# Altium footprint library con-subd.PCBLIB: 94 footprints (part 5 of 6)
Each footprint in its own frame and in the unit in brackets; x right, y up, seen from the top. Pads: shape width x height; smd on the part's side, far side on the other; paste and mask are expansions set on the pad; w line width, h text height; cw(c..) or ccw(c..) is an arc to the next point about the centre after c.
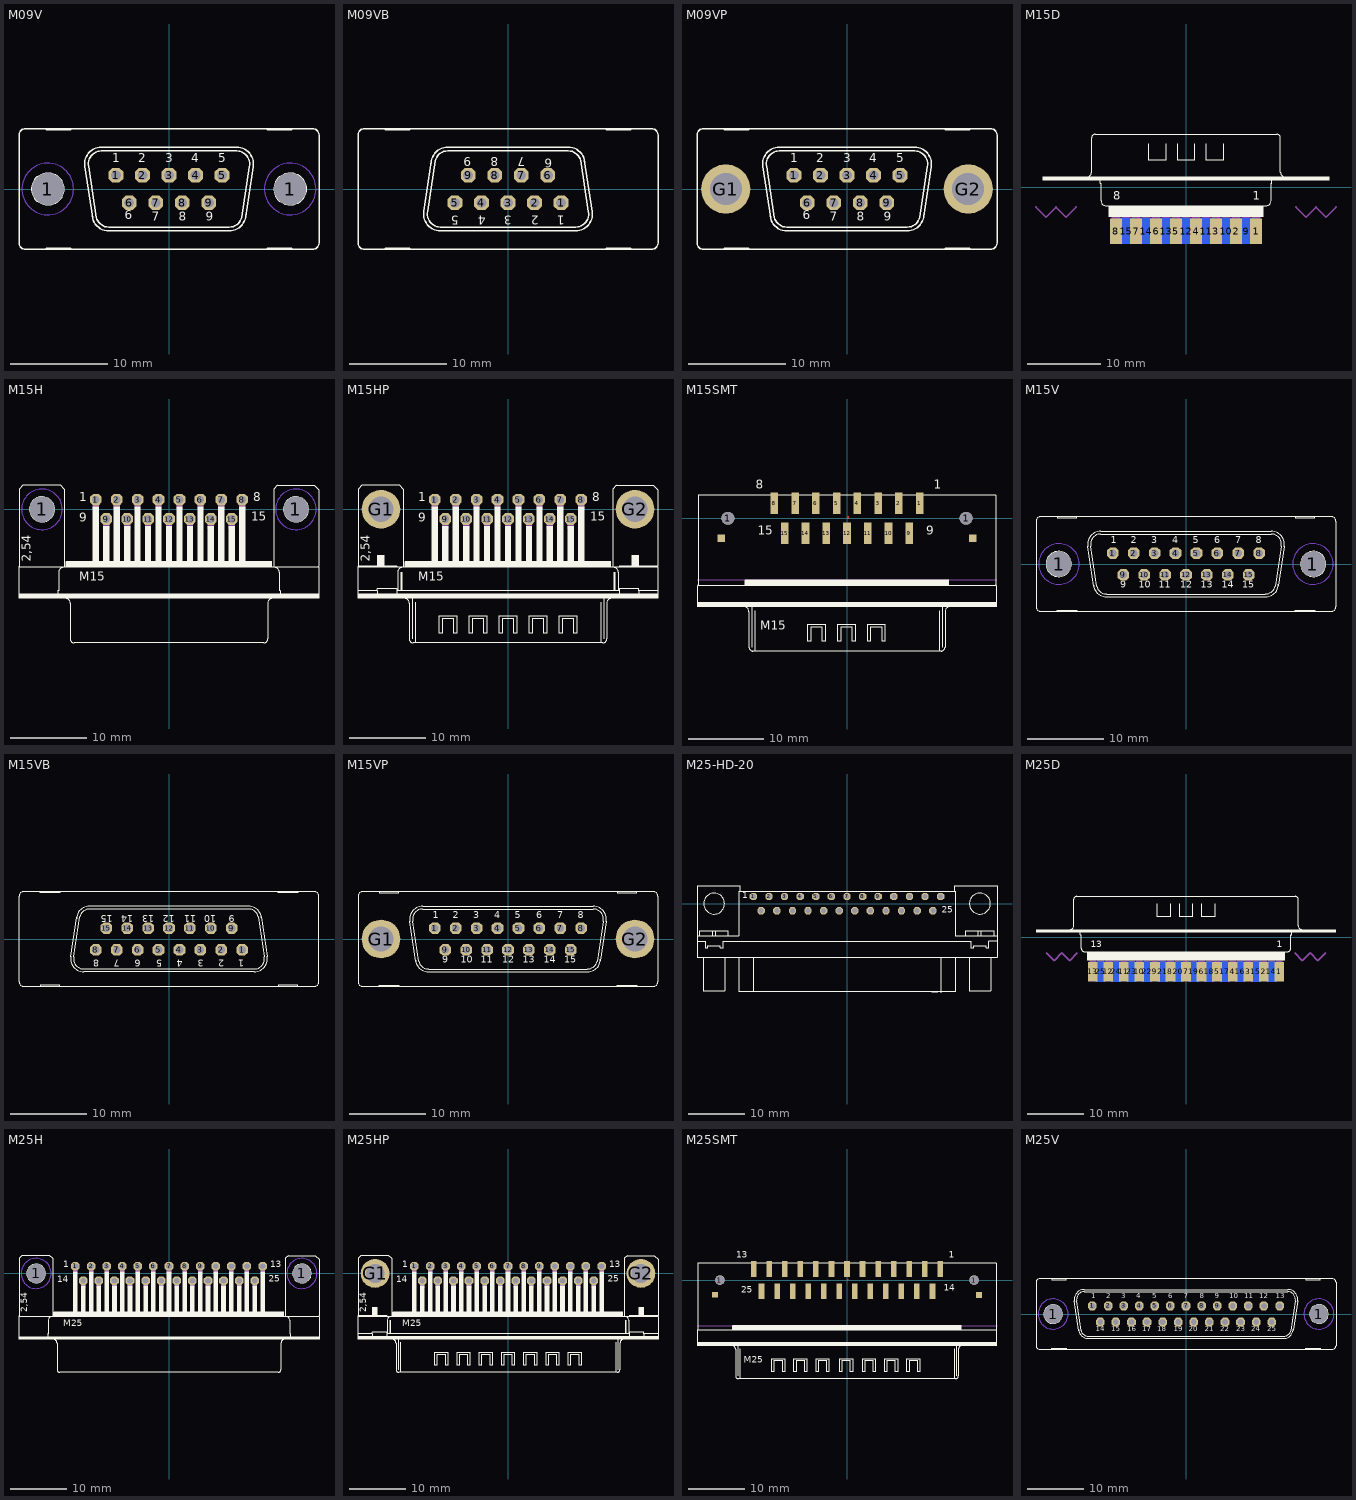
[diagram p4: the footprints below, top view; thin cyan lines are the x and y axes]

## M09V [mil]
pads (11):
  round 130 hole 130: 1(-493,0) 1(493,0)
  oct 60x60 hole 40: 1(-216,56) 2(-108,56) 3(0,56) 4(108,56) 5(216,56) 6(-162,-56) 7(-54,-56) 8(54,-56) 9(162,-56)
Bottom Layer keep-out:
  circle w0: c-493,0 r105
  circle w0: c493,0 r105
Top Overlay:
  circle w6: c-493,0 r65
  circle w6: c493,0 r65
  lines w6: -342,92 -311,-116 ; -341.68,88.67 cw(c-275,102) -275,170 275,170 cw(c275,101.99) 341.69,88.67 ; -327,92 -296,-116 ; -326.97,91.61 cw(c-275,102) -275,155 275,155 cw(c275,101.99) 326.79,90.7 ; -312.4,-110.99 ccw(c-245,-102) -245,-170 245,-170 ccw(c244.99,-102) 312.89,-105.7 ; -296.3,-115.33 ccw(c-245,-101.99) -245,-155 245,-155 ccw(c244.99,-102) 296.52,-114.37 ; 296,-115 327,91 ; 312,-113 342,91 ; -500,-245 -500,-240 -400,-240 -400,-245 ; -500,-245 -400,-245 ; -500,-245 -585,-245 cw(c-585,-220) -610,-220 -610,220 cw(c-585,220) -585,245 -500,245 ; -500,245 -500,240 -400,240 -400,245 ; -500,245 -400,245 ; -400,-245 400,-245 ; -400,245 400,245 ; 400,-245 400,-240 500,-240 500,-245 ; 400,-245 500,-245 ; 400,245 400,240 500,240 500,245 ; 400,245 500,245 ; 500,-245 585,-245 ccw(c585,-220) 610,-220 610,220 ccw(c585,220) 585,245 500,245
  text "3" at -15,96 h60.45
  text "1" at -230,96 h60.45
  text "2" at -125,96 h60.45
  text "4" at 90,96 h60.45
  text "5" at 200,96 h60.45
  text "6" at -180,-136 h60.45
  text "7" at -70,-141 h60.45
  text "8" at 40,-141 h60.45
  text "9" at 150,-141 h60.45
Mechanical 16:
  circle w16: c0,56 r10
  circle w16: c54,-56 r10
  circle w16: c108,56 r10
  circle w16: c162,-56 r10
  circle w16: c216,56 r10
  circle w16: c-54,-56 r10
  circle w16: c-108,56 r10
  circle w16: c-162,-56 r10
  circle w16: c-216,56 r10
Via Holes:
  circle w0: c-493,0 r105
  circle w0: c493,0 r105

## M09VB [mil]
pads (9):
  oct 60x60 hole 40: 1(216,-56) 2(108,-56) 3(0,-56) 4(-108,-56) 5(-216,-56) 6(162,56) 7(54,56) 8(-54,56) 9(-162,56)
Top Overlay:
  lines w6: -342,-91 -312,113 ; -341.69,-88.67 ccw(c-275,-101.99) -275,-170 275,-170 ccw(c275,-102) 341.68,-88.67 ; -327,-91 -296,115 ; -326.79,-90.7 ccw(c-275,-101.99) -275,-155 275,-155 ccw(c275,-102) 326.97,-91.61 ; -312.89,105.7 cw(c-244.99,102) -245,170 245,170 cw(c245,102) 312.4,110.99 ; -296.52,114.37 cw(c-244.99,102) -245,155 245,155 cw(c245,101.99) 296.3,115.33 ; 296,116 327,-92 ; 311,116 342,-92 ; -500,-245 -585,-245 cw(c-585,-220) -610,-220 -610,220 cw(c-585,220) -585,245 -500,245 ; -500,-245 -500,-240 -400,-240 -400,-245 ; -500,-245 -400,-245 ; -500,245 -400,245 ; -500,245 -500,240 -400,240 -400,245 ; -400,-245 400,-245 ; -400,245 400,245 ; 400,-245 400,-240 500,-240 500,-245 ; 400,-245 500,-245 ; 400,245 500,245 ; 400,245 400,240 500,240 500,245 ; 500,-245 585,-245 ccw(c585,-220) 610,-220 610,220 ccw(c585,220) 585,245 500,245
  text "3" at 15,-96 h60.45
  text "1" at 230,-96 h60.45
  text "2" at 125,-96 h60.45
  text "4" at -90,-96 h60.45
  text "5" at -200,-96 h60.45
  text "6" at 180,136 h60.45
  text "7" at 70,141 h60.45
  text "8" at -40,141 h60.45
  text "9" at -150,141 h60.45
Mechanical 16:
  circle w16: c0,-56 r10
  circle w16: c-54,56 r10
  circle w16: c-108,-56 r10
  circle w16: c-162,56 r10
  circle w16: c-216,-56 r10
  circle w16: c54,56 r10
  circle w16: c108,-56 r10
  circle w16: c162,56 r10
  circle w16: c216,-56 r10

## M09VP [mil]
pads (11):
  oct 60x60 hole 40: 1(-216,56) 2(-108,56) 3(0,56) 4(108,56) 5(216,56) 6(-162,-56) 7(-54,-56) 8(54,-56) 9(162,-56)
  round 200 hole 130: G1(-493,0) G2(493,0)
Top Overlay:
  circle w6: c-493,0 r65
  circle w6: c493,0 r65
  lines w6: -342,92 -311,-116 ; -341.68,88.67 cw(c-275,102) -275,170 275,170 cw(c275,101.99) 341.69,88.67 ; -327,92 -296,-116 ; -326.97,91.61 cw(c-275,102) -275,155 275,155 cw(c275,101.99) 326.79,90.7 ; -312.4,-110.99 ccw(c-245,-102) -245,-170 245,-170 ccw(c244.99,-102) 312.89,-105.7 ; -296.3,-115.33 ccw(c-245,-101.99) -245,-155 245,-155 ccw(c244.99,-102) 296.52,-114.37 ; 296,-115 327,91 ; 312,-113 342,91 ; -500,-245 -500,-240 -400,-240 -400,-245 ; -500,-245 -400,-245 ; -500,-245 -585,-245 cw(c-585,-220) -610,-220 -610,220 cw(c-585,220) -585,245 -500,245 ; -500,245 -500,240 -400,240 -400,245 ; -500,245 -400,245 ; -400,-245 400,-245 ; -400,245 400,245 ; 400,-245 400,-240 500,-240 500,-245 ; 400,-245 500,-245 ; 400,245 400,240 500,240 500,245 ; 400,245 500,245 ; 500,-245 585,-245 ccw(c585,-220) 610,-220 610,220 ccw(c585,220) 585,245 500,245
  text "3" at -15,96 h60.45
  text "1" at -230,96 h60.45
  text "2" at -125,96 h60.45
  text "4" at 90,96 h60.45
  text "5" at 200,96 h60.45
  text "6" at -180,-136 h60.45
  text "7" at -70,-141 h60.45
  text "8" at 40,-141 h60.45
  text "9" at 150,-141 h60.45
Mechanical 16:
  circle w16: c0,56 r10
  circle w16: c54,-56 r10
  circle w16: c108,56 r10
  circle w16: c162,-56 r10
  circle w16: c216,56 r10
  circle w16: c-54,-56 r10
  circle w16: c-108,56 r10
  circle w16: c-162,-56 r10
  circle w16: c-216,56 r10

## M15D [mil]
pads (15):
  rect 66.93x137.8 smd: 1(378.01,-237.98) 2(270,-237.99) 3(161.99,-237.98) 4(54.01,-237.98) 5(-54.01,-237.98) 6(-161.99,-237.98) 7(-270,-237.99) 8(-378.01,-237.98)
  rect 66.93x137.8 smd far side: 9(324,-238) 10(216,-238) 11(108,-238) 12(0,-238) 13(-108,-238) 14(-216,-238) 15(-324,-238)
Top Overlay:
  rectangle: -775,35.56 775,55.56
  rectangle: -417.32,-161.42 417.32,-98.43
  lines w6: -535,55.55 ccw(c-535,80.55) -510,80.55 -510,265.55 cw(c-490,265.55) -490,285.55 490,285.55 cw(c490,265.55) 510,265.55 510,80.55 ccw(c535,80.55) 535,55.55 ; -464,40 -464,20 -459,20 -459,-75 ccw(c-434,-75) -434,-100 ; -434.76,-100 434.76,-100 ; -200,234.45 -200,144.45 -110,144.45 -110,234.45 ; -45,234.45 -45,144.45 45,144.45 45,234.45 ; 110,234.45 110,144.45 200,144.45 200,234.45 ; 434,-100 ccw(c434,-75) 459,-75 459,20 464,20 464,40
  text "1" at 360.93,-85.77 h77.5
  text "8" at -393.8,-85.77 h77.5
Bottom Overlay:
  text "9" at 345.18,-32.48 h77.5
  text "15" at -307.19,-32.48 h77.5
Mechanical 13:
  lines w10: -810,-108 -756,-162 -702,-108 -648,-162 -594,-108 ; 594,-108 648,-162 702,-108 756,-162 810,-108
  text "Board" at 612,-100 h77.5
  text "Board" at -812,-100 h77.5
Mechanical 16:
  rectangle: 354.38,-258.27 401.62,-159.84
  rectangle: 246.38,-258.27 293.62,-159.84
  rectangle: 138.38,-258.27 185.62,-159.84
  rectangle: 30.38,-258.27 77.62,-159.84
  rectangle: -77.62,-258.27 -30.38,-159.84
  rectangle: -185.62,-258.27 -138.38,-159.84
  rectangle: -293.62,-258.27 -246.38,-159.84
  rectangle: -401.62,-258.27 -354.38,-159.84
  text "M15D" at -408,181 h77.5
Mechanical 30:
  rectangle: 300.38,-258.27 347.62,-159.84
  rectangle: 192.38,-258.27 239.62,-159.84
  rectangle: 84.38,-258.27 131.62,-159.84
  rectangle: -23.62,-258.27 23.62,-159.84
  rectangle: -131.62,-258.27 -84.38,-159.84
  rectangle: -239.62,-258.27 -192.38,-159.84
  rectangle: -347.62,-258.27 -300.38,-159.84

## M15H [mil]
pads (17):
  round 130 hole 130: 1(-656,0) 1(656,0)
  oct 60x60 hole 40: 1(-378,50) 2(-270,50) 3(-162,50) 4(-54,50) 5(54,50) 6(162,50) 7(270,50) 8(378,50) 9(-324,-50) 10(-216,-50) 11(-108,-50) 12(0,-50) 13(108,-50) 14(216,-50) 15(324,-50)
Bottom Layer keep-out:
  circle w0: c656,0 r105
  circle w0: c-656,0 r105
Top Overlay:
  circle w6: c656,0 r65
  circle w6: c-656,0 r65
  rectangle: -775,-460 775,-440
  rectangle: -530,-300 530,-270
  rectangle: -394,-270 -362,15
  rectangle: -340,-270 -308,-85
  rectangle: -286,-270 -254,15
  rectangle: -232,-270 -200,-85
  rectangle: -178,-270 -146,15
  rectangle: -124,-270 -92,-85
  rectangle: -70,-270 -38,15
  rectangle: -16,-270 16,-85
  rectangle: 38,-270 70,15
  rectangle: 92,-270 124,-85
  rectangle: 146,-270 178,15
  rectangle: 200,-270 232,-85
  rectangle: 254,-270 286,15
  rectangle: 308,-270 340,-85
  rectangle: 362,-270 394,15
  lines w6: -545,-300 ccw(c-545,-325) -570,-325 -570,-420 -575,-420 -575,-440 ; -535,-460 cw(c-535,-485) -510,-485 -510,-670 ccw(c-490,-670) -490,-690 -480,-690 480,-690 490,-690 ccw(c490,-670) 510,-670 510,-485 cw(c535,-485) 535,-460 ; 545,-300 cw(c545,-325) 570,-325 570,-420 575,-420 575,-440 ; -775,-440 -775,-460 -495,-460 495,-460 775,-460 775,-440 ; -775,-440 -775,-420 -775,-300 ; -775,-440 -675,-440 -575,-440 ; -775,-300 -775,-295 -775,105 -755,125 -560,125 -540,105 -540,-300 ; -775,-300 -575,-300 -540,-300 ; -575,-440 575,-440 ; -540,-300 -530,-300 ; -530,-300 530,-300 ; -530,-300 -530,-270 530,-270 530,-300 ; 530,-300 540,-300 ; 540,-300 575,-300 775,-300 ; 540,-300 540,105 560,125 750,125 775,100 775,-295 775,-300 ; 575,-440 675,-440 775,-440 ; 775,-440 775,-420 775,-300
  text "1" at -465,25 h77.5
  text "8" at 435,25 h77.5
  text "9" at -465,-80 h77.5
  text "15" at 425,-75 h77.5
  text "2,54" at -700,-270 h77.5
  text "M15" at -465,-385 h77.5
Mechanical 16:
  lines w32: -378,5 -378,45 ; -324,-95 -324,-55 ; -270,5 -270,45 ; -216,-95 -216,-55 ; -162,5 -162,45 ; -108,-95 -108,-55 ; -54,5 -54,45 ; 0,-95 0,-55 ; 54,5 54,45 ; 108,-95 108,-55 ; 162,5 162,45 ; 216,-95 216,-55 ; 270,5 270,45 ; 324,-95 324,-55 ; 378,5 378,45
Via Holes:
  circle w0: c656,0 r105
  circle w0: c-656,0 r105

## M15HP [mil]
pads (17):
  oct 60x60 hole 40: 1(-378,50) 2(-270,50) 3(-162,50) 4(-54,50) 5(54,50) 6(162,50) 7(270,50) 8(378,50) 9(-324,-50) 10(-216,-50) 11(-108,-50) 12(0,-50) 13(108,-50) 14(216,-50) 15(324,-50)
  round 200 hole 130: G1(-656,0) G2(656,0)
Top Overlay:
  circle w6: c-656,0 r65
  circle w6: c656,0 r65
  rectangle: 545,-420 555,-325
  rectangle: -555,-420 -545,-325
  rectangle: 638,-300 678,-235
  rectangle: -678,-300 -638,-235
  rectangle: -775,-460 775,-440
  rectangle: -530,-300 530,-270
  rectangle: -394,-270 -362,15
  rectangle: -340,-270 -308,-85
  rectangle: -286,-270 -254,15
  rectangle: -232,-270 -200,-85
  rectangle: -178,-270 -146,15
  rectangle: -124,-270 -92,-85
  rectangle: -70,-270 -38,15
  rectangle: -16,-270 16,-85
  rectangle: 38,-270 70,15
  rectangle: 92,-270 124,-85
  rectangle: 146,-270 178,15
  rectangle: 200,-270 232,-85
  rectangle: 254,-270 286,15
  rectangle: 308,-270 340,-85
  rectangle: 362,-270 394,15
  lines w6: -545,-300 ccw(c-545,-325) -570,-325 -570,-420 ; -535,-460 cw(c-535,-485) -510,-485 -510,-670 ccw(c-490,-670) -490,-690 -480,-690 ; -495,-670 -495,-460 ; -480,-480 -480,-690 ; 480,-480 480,-690 ; 495,-670 495,-460 ; 535,-460 ccw(c535,-485) 510,-485 510,-670 cw(c490,-670) 490,-690 480,-690 ; 545,-300 cw(c545,-325) 570,-325 570,-420 ; -775,-440 -775,-460 -495,-460 ; -775,-440 -775,-420 ; -775,-440 -675,-440 ; -775,-420 -775,-300 ; -775,-420 -675,-420 ; -775,-300 -775,-295 ; -775,-300 -575,-300 ; -775,-295 -575,-295 -575,-300 ; -775,-295 -775,105 -755,125 -560,125 -540,105 -540,-300 ; -675,-440 -675,-420 ; -675,-440 -575,-440 ; -675,-420 -675,-410 -575,-410 -575,-420 ; -575,-440 575,-440 ; -575,-440 -575,-420 ; -575,-420 -570,-420 ; -575,-300 -540,-300 ; -570,-420 570,-420 ; -540,-300 -530,-300 ; -530,-300 530,-300 ; -530,-300 -530,-270 530,-270 530,-300 ; -495,-460 495,-460 ; -480,-690 480,-690 ; 495,-460 775,-460 775,-440 ; 530,-300 540,-300 ; 540,-300 575,-300 ; 540,-300 540,105 560,125 750,125 775,100 775,-295 ; 570,-420 575,-420 ; 575,-440 675,-440 ; 575,-440 575,-420 ; 575,-420 575,-410 675,-410 675,-420 ; 575,-300 775,-300 ; 575,-300 575,-295 775,-295 ; 675,-440 775,-440 ; 675,-440 675,-420 ; 675,-420 775,-420 ; 775,-440 775,-420 ; 775,-420 775,-300 ; 775,-300 775,-295 ; -355,-640 -340,-640 -340,-565 -280,-565 -280,-640 -265,-640 -265,-550 -355,-550 -355,-640 ; -200,-640 -185,-640 -185,-565 -125,-565 -125,-640 -110,-640 -110,-550 -200,-550 -200,-640 ; -45,-640 -30,-640 -30,-565 30,-565 30,-640 45,-640 45,-550 -45,-550 -45,-640 ; 110,-640 125,-640 125,-565 185,-565 185,-640 200,-640 200,-550 110,-550 110,-640 ; 265,-640 280,-640 280,-565 340,-565 340,-640 355,-640 355,-550 265,-550 265,-640
  text "1" at -465,25 h77.5
  text "8" at 435,25 h77.5
  text "9" at -465,-80 h77.5
  text "15" at 425,-75 h77.5
  text "2,54" at -700,-270 h77.5
  text "M15" at -465,-385 h77.5
Mechanical 16:
  lines w32: -378,5 -378,45 ; -324,-95 -324,-55 ; -270,5 -270,45 ; -216,-95 -216,-55 ; -162,5 -162,45 ; -108,-95 -108,-55 ; -54,5 -54,45 ; 0,-95 0,-55 ; 54,5 54,45 ; 108,-95 108,-55 ; 162,5 162,45 ; 216,-95 216,-55 ; 270,5 270,45 ; 324,-95 324,-55 ; 378,5 378,45

## M15SMT [mm]
pads (19):
  round 1.7 hole 1.7: 1(-15.72,0) 1(15.72,0)
  rect 1x2.8 smd: 1(9.59,1.975) 2(6.85,1.975) 3(4.11,1.975) 4(1.37,1.975) 5(-1.37,1.975) 6(-4.11,1.975) 7(-6.85,1.975) 8(-9.59,1.975) 9(8.22,-1.975) 10(5.48,-1.975) 11(2.74,-1.975) 12(0,-1.975) 13(-2.74,-1.975) 14(-5.48,-1.975) 15(-8.22,-1.975)
  rect 1x1 smd: S@1(16.595,-2.65) S@2(-16.595,-2.625)
Top Layer:
  region: 0,0 0.254,0 0.254,0.254 0,0.254
  region: 0,0 0.254,0 0.254,0.254 0,0.254
Top Overlay:
  rectangle: -13.45,-8.92 13.425,-8.158
  rectangle: -19.65,-11.684 19.675,-11.04
  lines w0.152: -13.572,-11.684 cw(c-13.572,-12.319) -12.937,-12.319 -12.937,-17.018 ccw(c-12.429,-17.018) -12.429,-17.526 -12.175,-17.526 ; -12.556,-17.018 -12.556,-11.684 ; -12.175,-12.192 -12.175,-17.526 ; 12.175,-12.192 12.175,-17.526 ; 12.556,-17.018 12.556,-11.684 ; 13.572,-11.684 ccw(c13.572,-12.319) 12.937,-12.319 12.937,-17.018 cw(c12.429,-17.018) 12.429,-17.526 12.175,-17.526 ; -19.668,-8.92 -19.668,-11.684 -12.556,-11.684 ; -19.668,-8.92 -19.62,-8.793 -19.62,3.016 19.62,3.016 19.62,-8.793 19.668,-8.92 ; -19.668,-8.92 -13.445,-8.92 ; -13.445,-8.92 13.445,-8.92 ; -13.445,-8.92 -13.445,-8.158 13.445,-8.158 13.445,-8.92 ; -12.556,-11.684 12.556,-11.684 ; -12.175,-17.526 12.175,-17.526 ; 12.556,-11.684 19.668,-11.684 19.668,-8.92 ; 13.445,-8.92 19.668,-8.92 ; -5.156,-16.256 -4.775,-16.256 -4.775,-14.351 -3.251,-14.351 -3.251,-16.256 -2.87,-16.256 -2.87,-13.97 -5.156,-13.97 -5.156,-16.256 ; -1.219,-16.256 -0.838,-16.256 -0.838,-14.351 0.686,-14.351 0.686,-16.256 1.067,-16.256 1.067,-13.97 -1.219,-13.97 -1.219,-16.256 ; 2.718,-16.256 3.099,-16.256 3.099,-14.351 4.623,-14.351 4.623,-16.256 5.004,-16.256 5.004,-13.97 2.718,-13.97 2.718,-16.256
  text "8" at -12.065,3.492 h1.97
  text "1" at 11.43,3.492 h1.97
  text "15" at -11.747,-2.54 h1.97
  text "9" at 10.477,-2.54 h1.97
  text "M15" at -11.469,-15.104 h1.97
Mechanical 1:
  lines w0: -19.798,-8.1 19.798,-8.1

## M15V [mil]
pads (17):
  round 130 hole 130: 1(-656,0) 1(656,0)
  oct 60x60 hole 40: 1(-378,56) 2(-270,56) 3(-162,56) 4(-54,56) 5(54,56) 6(162,56) 7(270,56) 8(378,56) 9(-324,-56) 10(-216,-56) 11(-108,-56) 12(0,-56) 13(108,-56) 14(216,-56) 15(324,-56)
Bottom Layer keep-out:
  circle w0: c656,0 r105
  circle w0: c-656,0 r105
Top Overlay:
  circle w6: c-658,0 r65
  circle w6: c658,0 r65
  lines w6: -507,92 -476,-116 ; -506.68,88.67 cw(c-440,102) -440,170 440,170 cw(c440,101.99) 506.69,88.67 ; -492,92 -461,-116 ; -491.97,91.61 cw(c-440,102) -440,155 440,155 cw(c440,101.99) 491.79,90.7 ; -477.4,-110.99 ccw(c-410,-102) -410,-170 410,-170 ccw(c409.99,-102) 477.89,-105.7 ; -461.3,-115.33 ccw(c-410,-101.99) -410,-155 410,-155 ccw(c409.99,-102) 461.52,-114.37 ; 461,-115 492,91 ; 477,-113 507,91 ; -665,-245 -665,-240 -565,-240 -565,-245 ; -665,-245 -565,-245 ; -665,-245 -750,-245 cw(c-750,-220) -775,-220 -775,220 cw(c-750,220) -750,245 -665,245 ; -665,245 -665,240 -565,240 -565,245 ; -665,245 -565,245 ; -565,-245 565,-245 ; -565,245 565,245 ; 565,-245 565,-240 665,-240 665,-245 ; 565,-245 665,-245 ; 565,245 565,240 665,240 665,245 ; 565,245 665,245 ; 665,-245 750,-245 ccw(c750,-220) 775,-220 775,220 ccw(c750,220) 750,245 665,245
  text "1" at -390,95 h60.45
  text "2" at -285,95 h60.45
  text "3" at -180,95 h60.45
  text "4" at -70,95 h60.45
  text "5" at 35,95 h60.45
  text "6" at 145,95 h60.45
  text "7" at 255,95 h60.45
  text "8" at 360,95 h60.45
  text "9" at -340,-135 h60.45
  text "10" at -245,-135 h60.45
  text "11" at -140,-135 h60.45
  text "12" at -30,-135 h60.45
  text "13" at 75,-135 h60.45
  text "14" at 185,-135 h60.45
  text "15" at 290,-135 h60.45
Mechanical 16:
  circle w16: c0,-56 r10
  circle w16: c-54,56 r10
  circle w16: c-108,-56 r10
  circle w16: c-162,56 r10
  circle w16: c-216,-56 r10
  circle w16: c54,56 r10
  circle w16: c108,-56 r10
  circle w16: c162,56 r10
  circle w16: c216,-56 r10
  circle w16: c270,56 r10
  circle w16: c378,56 r10
  circle w16: c324,-56 r10
  circle w16: c-270,56 r10
  circle w16: c-378,56 r10
  circle w16: c-324,-56 r10
Via Holes:
  circle w0: c656,0 r105
  circle w0: c-656,0 r105

## M15VB [mil]
pads (15):
  oct 60x60 hole 40: 1(378,-56) 2(270,-56) 3(162,-56) 4(54,-56) 5(-54,-56) 6(-162,-56) 7(-270,-56) 8(-378,-56) 9(324,56) 10(216,56) 11(108,56) 12(0,56) 13(-108,56) 14(-216,56) 15(-324,56)
Top Overlay:
  lines w6: -507,-91 -477,113 ; -506.69,-88.67 ccw(c-440,-101.99) -440,-170 440,-170 ccw(c440,-102) 506.68,-88.67 ; -492,-91 -461,115 ; -491.79,-90.7 ccw(c-440,-101.99) -440,-155 440,-155 ccw(c440,-102) 491.97,-91.61 ; -477.89,105.7 cw(c-409.99,102) -410,170 410,170 cw(c410,102) 477.4,110.99 ; -461.52,114.37 cw(c-409.99,102) -410,155 410,155 cw(c410,101.99) 461.3,115.33 ; 461,116 492,-92 ; 476,116 507,-92 ; -665,-245 -750,-245 cw(c-750,-220) -775,-220 -775,220 cw(c-750,220) -750,245 -665,245 ; -665,-245 -665,-240 -565,-240 -565,-245 ; -665,-245 -565,-245 ; -665,245 -565,245 ; -665,245 -665,240 -565,240 -565,245 ; -565,-245 565,-245 ; -565,245 565,245 ; 565,-245 565,-240 665,-240 665,-245 ; 565,-245 665,-245 ; 565,245 665,245 ; 565,245 565,240 665,240 665,245 ; 665,-245 750,-245 ccw(c750,-220) 775,-220 775,220 ccw(c750,220) 750,245 665,245
  text "1" at 390,-95 h60.45
  text "2" at 285,-95 h60.45
  text "3" at 180,-95 h60.45
  text "4" at 70,-95 h60.45
  text "5" at -35,-95 h60.45
  text "6" at -145,-95 h60.45
  text "7" at -255,-95 h60.45
  text "8" at -360,-95 h60.45
  text "9" at 340,135 h60.45
  text "10" at 245,135 h60.45
  text "11" at 140,135 h60.45
  text "12" at 30,135 h60.45
  text "13" at -75,135 h60.45
  text "14" at -185,135 h60.45
  text "15" at -290,135 h60.45
Mechanical 16:
  circle w16: c0,56 r10
  circle w16: c54,-56 r10
  circle w16: c108,56 r10
  circle w16: c162,-56 r10
  circle w16: c216,56 r10
  circle w16: c-54,-56 r10
  circle w16: c-108,56 r10
  circle w16: c-162,-56 r10
  circle w16: c-216,56 r10
  circle w16: c-270,-56 r10
  circle w16: c-378,-56 r10
  circle w16: c-324,56 r10
  circle w16: c270,-56 r10
  circle w16: c378,-56 r10
  circle w16: c324,56 r10

## M15VP [mil]
pads (17):
  oct 60x60 hole 40: 1(-378,56) 2(-270,56) 3(-162,56) 4(-54,56) 5(54,56) 6(162,56) 7(270,56) 8(378,56) 9(-324,-56) 10(-216,-56) 11(-108,-56) 12(0,-56) 13(108,-56) 14(216,-56) 15(324,-56)
  round 200 hole 130: G1(-656,0) G2(656,0)
Top Overlay:
  circle w6: c-658,0 r65
  circle w6: c658,0 r65
  lines w6: -507,92 -476,-116 ; -506.68,88.67 cw(c-440,102) -440,170 440,170 cw(c440,101.99) 506.69,88.67 ; -492,92 -461,-116 ; -491.97,91.61 cw(c-440,102) -440,155 440,155 cw(c440,101.99) 491.79,90.7 ; -477.4,-110.99 ccw(c-410,-102) -410,-170 410,-170 ccw(c409.99,-102) 477.89,-105.7 ; -461.3,-115.33 ccw(c-410,-101.99) -410,-155 410,-155 ccw(c409.99,-102) 461.52,-114.37 ; 461,-115 492,91 ; 477,-113 507,91 ; -665,-245 -665,-240 -565,-240 -565,-245 ; -665,-245 -565,-245 ; -665,-245 -750,-245 cw(c-750,-220) -775,-220 -775,220 cw(c-750,220) -750,245 -665,245 ; -665,245 -665,240 -565,240 -565,245 ; -665,245 -565,245 ; -565,-245 565,-245 ; -565,245 565,245 ; 565,-245 565,-240 665,-240 665,-245 ; 565,-245 665,-245 ; 565,245 565,240 665,240 665,245 ; 565,245 665,245 ; 665,-245 750,-245 ccw(c750,-220) 775,-220 775,220 ccw(c750,220) 750,245 665,245
  text "1" at -390,95 h60.45
  text "2" at -285,95 h60.45
  text "3" at -180,95 h60.45
  text "4" at -70,95 h60.45
  text "5" at 35,95 h60.45
  text "6" at 145,95 h60.45
  text "7" at 255,95 h60.45
  text "8" at 360,95 h60.45
  text "9" at -340,-135 h60.45
  text "10" at -245,-135 h60.45
  text "11" at -140,-135 h60.45
  text "12" at -30,-135 h60.45
  text "13" at 75,-135 h60.45
  text "14" at 185,-135 h60.45
  text "15" at 290,-135 h60.45
Mechanical 16:
  circle w16: c0,-56 r10
  circle w16: c-54,56 r10
  circle w16: c-108,-56 r10
  circle w16: c-162,56 r10
  circle w16: c-216,-56 r10
  circle w16: c54,56 r10
  circle w16: c108,-56 r10
  circle w16: c162,56 r10
  circle w16: c216,-56 r10
  circle w16: c270,56 r10
  circle w16: c378,56 r10
  circle w16: c324,-56 r10
  circle w16: c-270,56 r10
  circle w16: c-378,56 r10
  circle w16: c-324,-56 r10

## M25-HD-20 [mil]
pads (25):
  oct 51.18x51.18 hole 35.43: 1(-652,50) 2(-543,50) 3(-435,50) 4(-326,50) 5(-217,50) 6(-109,50) 7(0,50) 8(109,50) 9(217,50) 10(326,50) 11(435,50) 12(543,50) 13(652,50) 14(-598,-50) 15(-489,-50) 16(-380,-50) 17(-272,-50) 18(-163,-50) 19(-54,-50) 20(54,-50) 21(163,-50) 22(272,-50) 23(380,-50) 24(489,-50) 25(598,-50)
Top Overlay:
  circle w8: c-926,0 r73
  circle w8: c926,0 r73
  lines w8: -1045,-261.6 -988.5,-261.6 -988.5,-308.6 -968.5,-308.6 -968.5,-292.2 -883.5,-292.2 -883.5,-308.6 -863.5,-308.6 -863.5,-261.6 863.5,-261.6 863.5,-308.6 883.5,-308.6 883.5,-292.2 968.5,-292.2 968.5,-308.6 988.5,-308.6 988.5,-261.6 1045,-261.6 ; -1045,-223.6 -755,-223.6 -755,85.4 755,85.4 755,-223.6 1045,-223.6 ; -1025,-223.6 -1025,-188.6 -827,-188.6 -827,-223.6 ; -1001,-375 -1001,-606.6 -851,-606.6 -851,-375 ; -936,-223.6 -936,-188.6 ; -916,-223.6 -916,-188.6 ; -754.4,-375 -754.4,-614 754.4,-614 754.4,-375 ; -747,85.4 -747,125.4 -1045,125.4 -1045,-375 1045,-375 1045,125.4 747,125.4 747,85.4 ; -654.4,-614 -654.4,-375 ; 590,-614 590,-618.5 597.5,-618.5 597.5,-614 ; 593.75,-618.5 593.75,-614 ; 602.5,-614 602.5,-618.5 627.5,-618.5 627.5,-614 ; 617.5,-618.5 617.5,-614 ; 621.25,-618.5 621.25,-614 ; 650,-614 650,-618.5 657.5,-618.5 657.5,-614 ; 653.75,-618.5 653.75,-614 ; 654.4,-614 654.4,-375 ; 827,-223.6 827,-188.6 1025,-188.6 1025,-223.6 ; 851,-375 851,-606.6 1001,-606.6 1001,-375 ; 916,-223.6 916,-188.6 ; 936,-223.6 936,-188.6
  text "1" at -730,20 h77.5
  text "25" at 660,-80 h77.5

## M25D [mil]
pads (25):
  rect 66.93x137.8 smd: 1(648.01,-237.98) 2(540,-237.99) 3(431.99,-237.98) 4(324.01,-237.98) 5(215.99,-237.98) 6(108.01,-237.98) 7(0,-237.99) 8(-108.01,-237.98) 9(-215.99,-237.98) 10(-324.01,-237.98) 11(-431.99,-237.98) 12(-540,-237.99) 13(-648.01,-237.98)
  rect 66.93x137.8 smd far side: 14(594,-238) 15(486,-238) 16(378,-238) 17(270,-238) 18(162,-238) 19(54,-238) 20(-54,-238) 21(-162,-238) 22(-270,-238) 23(-378,-238) 24(-486,-238) 25(-594,-238)
Top Overlay:
  rectangle: -1043.31,35.43 1043.31,55.12
  rectangle: -688.98,-161.42 688.98,-98.43
  lines w6: -805,55.55 ccw(c-805,80.55) -780,80.55 -780,265.55 cw(c-760,265.55) -760,285.55 760,285.55 cw(c760,265.55) 780,265.55 780,80.55 ccw(c805,80.55) 805,55.55 ; -734,40 -734,20 -729,20 -729,-75 ccw(c-704,-75) -704,-100 ; -704.76,-100 704.76,-100 ; -200,234.45 -200,144.45 -110,144.45 -110,234.45 ; -45,234.45 -45,144.45 45,144.45 45,234.45 ; 110,234.45 110,144.45 200,144.45 200,234.45 ; 704,-100 ccw(c704,-75) 729,-75 729,20 734,20 734,40
  text "1" at 630.93,-85.77 h77.5
  text "13" at -663.8,-85.77 h77.5
Bottom Overlay:
  text "25" at -577.19,-32.48 h77.5
  text "14" at 615.18,-32.48 h77.5
Mechanical 13:
  lines w10: -972,-108 -918,-162 -864,-108 -810,-162 -756,-108 ; 756,-108 810,-162 864,-108 918,-162 972,-108
  text "Board" at 774,-100 h77.5
  text "Board" at -974,-100 h77.5
Mechanical 16:
  rectangle: 624.38,-258.27 671.62,-159.84
  rectangle: 516.38,-258.27 563.62,-159.84
  rectangle: 408.38,-258.27 455.62,-159.84
  rectangle: 300.38,-258.27 347.62,-159.84
  rectangle: 192.38,-258.27 239.62,-159.84
  rectangle: 84.38,-258.27 131.62,-159.84
  rectangle: -23.62,-258.27 23.62,-159.84
  rectangle: -131.62,-258.27 -84.38,-159.84
  rectangle: -239.62,-258.27 -192.38,-159.84
  rectangle: -347.62,-258.27 -300.38,-159.84
  rectangle: -455.62,-258.27 -408.38,-159.84
  rectangle: -563.62,-258.27 -516.38,-159.84
  rectangle: -671.62,-258.27 -624.38,-159.84
  text "M25D" at -678,181 h77.5
Mechanical 30:
  rectangle: 570.38,-258.27 617.62,-159.84
  rectangle: 462.38,-258.27 509.62,-159.84
  rectangle: 354.38,-258.27 401.62,-159.84
  rectangle: 246.38,-258.27 293.62,-159.84
  rectangle: 138.38,-258.27 185.62,-159.84
  rectangle: 30.38,-258.27 77.62,-159.84
  rectangle: -77.62,-258.27 -30.38,-159.84
  rectangle: -185.62,-258.27 -138.38,-159.84
  rectangle: -293.62,-258.27 -246.38,-159.84
  rectangle: -401.62,-258.27 -354.38,-159.84
  rectangle: -509.62,-258.27 -462.38,-159.84
  rectangle: -617.62,-258.27 -570.38,-159.84

## M25H [mil]
pads (27):
  round 130 hole 130: 1(-926,0) 1(926,0)
  oct 60x60 hole 40: 1(-652,50) 2(-543,50) 3(-435,50) 4(-326,50) 5(-217,50) 6(-109,50) 7(0,50) 8(109,50) 9(217,50) 10(326,50) 11(435,50) 12(543,50) 13(652,50) 14(-598,-50) 15(-489,-50) 16(-380,-50) 17(-272,-50) 18(-163,-50) 19(-54,-50) 20(54,-50) 21(163,-50) 22(272,-50) 23(380,-50) 24(489,-50) 25(598,-50)
Bottom Layer keep-out:
  circle w0: c926,0 r105
  circle w0: c-926,0 r105
Top Overlay:
  circle w6: c926,0 r65
  circle w6: c-926,0 r65
  rectangle: -1045,-460 1045,-440
  rectangle: -800,-300 800,-270
  rectangle: -668,-270 -636,15
  rectangle: -614,-270 -582,-85
  rectangle: -559,-270 -527,15
  rectangle: -505,-270 -473,-85
  rectangle: -451,-270 -419,15
  rectangle: -396,-270 -364,-85
  rectangle: -342,-270 -310,15
  rectangle: -288,-270 -256,-85
  rectangle: -233,-270 -201,15
  rectangle: -179,-270 -147,-85
  rectangle: -125,-270 -93,15
  rectangle: -70,-270 -38,-85
  rectangle: -16,-270 16,15
  rectangle: 38,-270 70,-85
  rectangle: 93,-270 125,15
  rectangle: 147,-270 179,-85
  rectangle: 201,-270 233,15
  rectangle: 256,-270 288,-85
  rectangle: 310,-270 342,15
  rectangle: 364,-270 396,-85
  rectangle: 419,-270 451,15
  rectangle: 473,-270 505,-85
  rectangle: 527,-270 559,15
  rectangle: 582,-270 614,-85
  rectangle: 636,-270 668,15
  lines w6: -845,-440 -845,-420 -840,-420 -840,-325 cw(c-815,-325) -815,-300 ; -805,-460 cw(c-805,-485) -780,-485 -780,-670 ccw(c-760,-670) -760,-690 -750,-690 750,-690 760,-690 ccw(c760,-670) 780,-670 780,-485 cw(c805,-485) 805,-460 ; 815,-300 cw(c815,-325) 840,-325 840,-420 845,-420 845,-440 ; -1045,-300 -1045,-420 -1045,-440 -1045,-460 -765,-460 765,-460 1045,-460 1045,-440 1045,-420 1045,-300 ; -1045,-300 -1045,-295 -1045,105 -1025,125 -830,125 -810,105 -810,-300 ; -1045,-300 -845,-300 -810,-300 ; -810,-300 -800,-300 ; -800,-300 800,-300 ; -800,-300 -800,-270 800,-270 800,-300 ; 800,-300 810,-300 ; 810,-300 845,-300 1045,-300 ; 810,-300 810,105 830,125 1020,125 1045,100 1045,-295 1045,-300
  text "1" at -735,25 h77.5
  text "13" at 705,25 h77.5
  text "14" at -780,-80 h77.5
  text "25" at 695,-75 h77.5
  text "2,54" at -970,-270 h77.5
  text "M25" at -735,-385 h77.5
Mechanical 16:
  lines w32: -652,5 -652,45 ; -598,-94 -598,-54 ; -543,5 -543,45 ; -489,-94 -489,-54 ; -435,5 -435,45 ; -380,-94 -380,-54 ; -326,5 -326,45 ; -272,-95 -272,-55 ; -217,5 -217,45 ; -163,-95 -163,-55 ; -109,5 -109,45 ; -54,-95 -54,-55 ; 0,5 0,45 ; 54,-95 54,-55 ; 109,5 109,45 ; 163,-95 163,-55 ; 217,5 217,45 ; 272,-95 272,-55 ; 326,5 326,45 ; 380,-95 380,-55 ; 435,5 435,45 ; 489,-95 489,-55 ; 543,5 543,45 ; 598,-95 598,-55 ; 652,5 652,45
Via Holes:
  circle w0: c926,0 r105
  circle w0: c-926,0 r105

## M25HP [mil]
pads (27):
  oct 60x60 hole 40: 1(-652,50) 2(-543,50) 3(-435,50) 4(-326,50) 5(-217,50) 6(-109,50) 7(0,50) 8(109,50) 9(217,50) 10(326,50) 11(435,50) 12(543,50) 13(652,50) 14(-598,-50) 15(-489,-50) 16(-380,-50) 17(-272,-50) 18(-163,-50) 19(-54,-50) 20(54,-50) 21(163,-50) 22(272,-50) 23(380,-50) 24(489,-50) 25(598,-50)
  round 200 hole 130: G1(-926,0) G2(926,0)
Top Overlay:
  drawing of 161 lines, arcs and shapes, not listed
  text "1" at -735,25 h77.5
  text "13" at 705,25 h77.5
  text "14" at -780,-80 h77.5
  text "25" at 695,-75 h77.5
  text "2,54" at -970,-270 h77.5
  text "M25" at -735,-385 h77.5
Mechanical 16:
  lines w32: -652,5 -652,45 ; -598,-94 -598,-54 ; -543,5 -543,45 ; -489,-94 -489,-54 ; -435,5 -435,45 ; -380,-94 -380,-54 ; -326,5 -326,45 ; -272,-95 -272,-55 ; -217,5 -217,45 ; -163,-95 -163,-55 ; -109,5 -109,45 ; -54,-95 -54,-55 ; 0,5 0,45 ; 54,-95 54,-55 ; 109,5 109,45 ; 163,-95 163,-55 ; 217,5 217,45 ; 272,-95 272,-55 ; 326,5 326,45 ; 380,-95 380,-55 ; 435,5 435,45 ; 489,-95 489,-55 ; 543,5 543,45 ; 598,-95 598,-55 ; 652,5 652,45

## M25SMT [mm]
pads (29):
  round 1.7 hole 1.7: 1(-22.57,0) 1(22.57,0)
  rect 1x2.8 smd: 1(16.56,1.975) 2(13.8,1.975) 3(11.04,1.975) 4(8.28,1.975) 5(5.52,1.975) 6(2.76,1.975) 7(0,1.975) 8(-2.76,1.975) 9(-5.52,1.975) 10(-8.28,1.975) 11(-11.04,1.975) 12(-13.8,1.975) 13(-16.56,1.975) 14(15.18,-1.975) 15(12.42,-1.975) 16(9.66,-1.975) 17(6.9,-1.975) 18(4.14,-1.975) 19(1.38,-1.975) 20(-1.38,-1.975) 21(-4.14,-1.975) 22(-6.9,-1.975) 23(-9.66,-1.975) 24(-12.42,-1.975) 25(-15.18,-1.975)
  rect 1x1 smd: S@1(23.445,-2.65) S@2(-23.445,-2.625)
Top Layer:
  region: 0,0 0.254,0 0.254,0.254 0,0.254
  region: 0,0 0.254,0 0.254,0.254 0,0.254
Top Overlay:
  rectangle: -20.3,-8.92 20.275,-8.158
  rectangle: -26.55,-11.684 26.525,-11.04
  lines w0.152: -20.422,-11.684 cw(c-20.422,-12.319) -19.787,-12.319 -19.787,-17.018 ccw(c-19.279,-17.018) -19.279,-17.526 -19.025,-17.526 ; -19.406,-17.018 -19.406,-11.684 ; -19.025,-12.192 -19.025,-17.526 ; 19.025,-12.192 19.025,-17.526 ; 19.406,-17.018 19.406,-11.684 ; 20.422,-11.684 ccw(c20.422,-12.319) 19.787,-12.319 19.787,-17.018 cw(c19.279,-17.018) 19.279,-17.526 19.025,-17.526 ; -26.518,-8.92 -26.518,-11.684 -19.406,-11.684 ; -26.518,-8.92 -26.47,-8.793 -26.47,3.016 26.47,3.016 26.47,-8.793 26.518,-8.92 ; -26.518,-8.92 -20.295,-8.92 ; -20.295,-8.92 20.295,-8.92 ; -20.295,-8.92 -20.295,-8.158 20.295,-8.158 20.295,-8.92 ; -19.406,-11.684 19.406,-11.684 ; -19.025,-17.526 19.025,-17.526 ; 19.406,-11.684 26.518,-11.684 26.518,-8.92 ; 20.295,-8.92 26.518,-8.92 ; -13.36,-16.256 -12.979,-16.256 -12.979,-14.351 -11.455,-14.351 -11.455,-16.256 -11.074,-16.256 -11.074,-13.97 -13.36,-13.97 -13.36,-16.256 ; -9.423,-16.256 -9.042,-16.256 -9.042,-14.351 -7.518,-14.351 -7.518,-16.256 -7.137,-16.256 -7.137,-13.97 -9.423,-13.97 -9.423,-16.256 ; -5.486,-16.256 -5.105,-16.256 -5.105,-14.351 -3.581,-14.351 -3.581,-16.256 -3.2,-16.256 -3.2,-13.97 -5.486,-13.97 -5.486,-16.256 ; -1.295,-16.256 -0.914,-16.256 -0.914,-14.351 0.61,-14.351 0.61,-16.256 0.991,-16.256 0.991,-13.97 -1.295,-13.97 -1.295,-16.256 ; 2.769,-16.256 3.15,-16.256 3.15,-14.351 4.674,-14.351 4.674,-16.256 5.055,-16.256 5.055,-13.97 2.769,-13.97 2.769,-16.256 ; 6.706,-16.256 7.087,-16.256 7.087,-14.351 8.611,-14.351 8.611,-16.256 8.992,-16.256 8.992,-13.97 6.706,-13.97 6.706,-16.256 ; 10.643,-16.256 11.024,-16.256 11.024,-14.351 12.548,-14.351 12.548,-16.256 12.929,-16.256 12.929,-13.97 10.643,-13.97 10.643,-16.256
  text "13" at -19.685,3.492 h1.97
  text "1" at 18.098,3.492 h1.97
  text "25" at -18.812,-2.682 h1.97
  text "14" at 17.153,-2.38 h1.97
  text "M25" at -18.319,-15.104 h1.97
Mechanical 1:
  lines w0: -26.647,-8.1 26.647,-8.1

## M25V [mil]
pads (27):
  round 130 hole 130: 1(-926,0) 1(926,0)
  oct 60x60 hole 40: 1(-652,56) 2(-543,56) 3(-435,56) 4(-326,56) 5(-217,56) 6(-109,56) 7(0,56) 8(109,56) 9(217,56) 10(326,56) 11(435,56) 12(543,56) 13(652,56) 14(-598,-56) 15(-489,-56) 16(-380,-56) 17(-272,-56) 18(-163,-56) 19(-54,-56) 20(54,-56) 21(163,-56) 22(272,-56) 23(380,-56) 24(489,-56) 25(598,-56)
Bottom Layer keep-out:
  circle w0: c926,0 r105
  circle w0: c-926,0 r105
Top Overlay:
  circle w6: c-926,-1 r65
  circle w6: c926,0 r65
  lines w6: -777,92 -746,-116 ; -776.68,88.67 cw(c-710,102) -710,170 710,170 cw(c710,101.99) 776.69,88.67 ; -762,92 -731,-116 ; -761.97,91.61 cw(c-710,102) -710,155 710,155 cw(c710,101.99) 761.79,90.7 ; -747.4,-110.99 ccw(c-680,-102) -680,-170 680,-170 ccw(c679.99,-102) 747.89,-105.7 ; -731.3,-115.33 ccw(c-680,-101.99) -680,-155 680,-155 ccw(c679.99,-102) 731.52,-114.37 ; 731,-115 762,91 ; 747,-113 777,91 ; -935,-245 -935,-240 -835,-240 -835,-245 ; -935,-245 -835,-245 ; -935,-245 -1020,-245 cw(c-1020,-220) -1045,-220 -1045,220 cw(c-1020,220) -1020,245 -935,245 ; -935,245 -935,240 -835,240 -835,245 ; -935,245 -835,245 ; -835,-245 835,-245 ; -835,245 835,245 ; 835,-245 835,-240 935,-240 935,-245 ; 835,-245 935,-245 ; 835,245 835,240 935,240 935,245 ; 835,245 935,245 ; 935,-245 1020,-245 ccw(c1020,-220) 1045,-220 1045,220 ccw(c1020,220) 1020,245 935,245
  text "1" at -660,95 h60.45
  text "2" at -555,95 h60.45
  text "3" at -450,95 h60.45
  text "4" at -345,95 h60.45
  text "5" at -235,95 h60.45
  text "6" at -125,95 h60.45
  text "7" at -15,95 h60.45
  text "8" at 95,95 h60.45
  text "9" at 200,95 h60.45
  text "10" at 300,95 h60.45
  text "11" at 405,95 h60.45
  text "12" at 510,95 h60.45
  text "13" at 625,95 h60.45
  text "14" at -630,-135 h60.45
  text "15" at -520,-135 h60.45
  text "16" at -410,-135 h60.45
  text "17" at -305,-135 h60.45
  text "18" at -200,-135 h60.45
  text "19" at -85,-135 h60.45
  text "20" at 20,-135 h60.45
  text "21" at 130,-135 h60.45
  text "22" at 240,-135 h60.45
  text "23" at 350,-135 h60.45
  text "24" at 455,-135 h60.45
  text "25" at 565,-135 h60.45
Mechanical 16:
  circle w16: c-109,56 r10
  circle w16: c-163,-56 r10
  circle w16: c-217,56 r10
  circle w16: c0,56 r10
  circle w16: c-54,-56 r10
  circle w16: c54,-56 r10
  circle w16: c109,56 r10
  circle w16: c217,56 r10
  circle w16: c163,-56 r10
  circle w16: c272,-56 r10
  circle w16: c326,56 r10
  circle w16: c380,-56 r10
  circle w16: c435,56 r10
  circle w16: c489,-56 r10
  circle w16: c543,56 r10
  circle w16: c652,56 r10
  circle w16: c598,-56 r10
  circle w16: c-326,56 r10
  circle w16: c-272,-56 r10
  circle w16: c-380,-56 r10
  circle w16: c-435,56 r10
  circle w16: c-543,56 r10
  circle w16: c-652,56 r10
  circle w16: c-489,-56 r10
  circle w16: c-598,-56 r10
Via Holes:
  circle w0: c926,0 r105
  circle w0: c-926,0 r105